# Altium footprint library IEEE-802.14.4.PcbLib: 21 footprints (part 2 of 2)
Each footprint in its own frame and in the unit in brackets; x right, y up, seen from the top. Pads: shape width x height; smd on the part's side, far side on the other; paste and mask are expansions set on the pad; w line width, h text height; cw(c..) or ccw(c..) is an arc to the next point about the centre after c.
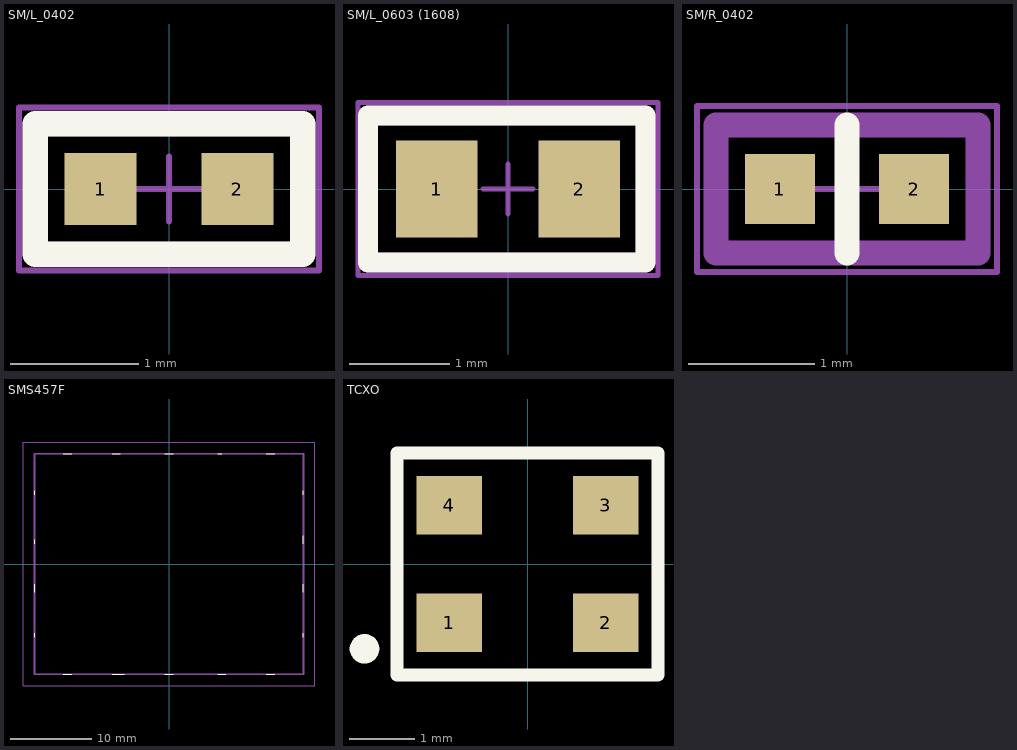
[diagram p1: the footprints below, top view; thin cyan lines are the x and y axes]

## SM/L_0402 [mil]
pads (2):
  rect 22x22 smd: 1(-21,0) 2(21,0)
Top Overlay:
  lines w7.87: -41,-20 41,-20 41,20 -41,20 -41,-20
Mechanical 11:
  text ".designator" at -43.31,-19.68 h19.68
Mechanical 13:
  lines w7.87: -41,-20 -41,20 41,20 41,-20 -41,-20
Mechanical 15:
  lines w1.97: 0,0 0,9.84 0,0 ; 0,0 -9.84,0 0,0 ; 0,0 9.84,0 0,0 ; 0,0 0,-9.84 0,0 ; -46,-25 -46,25 46,25 46,-25 -46,-25
3D body "User Library-cap_0402.STEP": height 19.68, standoff 0, extent -19.68,-9.84 19.69,9.85

## SM/L_0603 (1608) [mil]
pads (2):
  rect 32x38 smd: 1(-28,0) 2(28,0)
Top Overlay:
  lines w7.87: -55,-29 -55,29 54,29 54,-29 -55,-29
Mechanical 11:
  text ".designator" at 0,39.37 h19.68
  text ".Comment" at 0,-39.37 h19.68
Mechanical 13:
  lines w7.87: -55,-29 54,-29 54,29 -55,29 -55,-29
Mechanical 15:
  lines w1.97: 0,0 0,9.84 0,0 ; 0,0 -9.84,0 0,0 ; 0,0 9.84,0 0,0 ; 0,0 0,-9.84 0,0 ; -59,-34 -59,34 59,34 59,-34 -59,-34
3D body "User Library-Ferrite 0603.STEP": height 35.43, standoff 0, extent -31.49,-15.74 31.5,15.75

## SM/R_0402 [mil]
height 129.92
pads (2):
  rect 22x22 smd: 1(-21,0) 2(21,0)
Top Overlay:
  lines w7.87: 0,-20 0,20
Mechanical 11:
  text ".designator" at -195.87,-12.8 h39.37
Mechanical 13:
  lines w7.87: -41,-20 41,-20 41,20 -41,20 -41,-20
Mechanical 15:
  lines w1.97: 0,0 0,9.84 0,0 ; 0,0 -9.84,0 0,0 ; 0,0 9.84,0 0,0 ; 0,0 0,-9.84 0,0 ; -47,-26 -47,26 47,26 47,-26 -47,-26
3D body "User Library-res0402_.STEP": height 15.09, standoff 0.79, extent -19.36,-9.87 19.64,10.13

## SMS457F [mm]
pads (44):
  rect 1.02x3.4 on Top Paste: ""(-16.455,-11.275)
  rect 1.1x3.4 on Top Solder: ""(-16.455,-11.275)
  rect 1.02x4.04 on Top Paste: ""(-16.455,-5.805) ""(-16.455,-0.015) ""(-16.455,5.775) ""(16.455,-5.805) ""(16.455,-0.015) ""(16.455,5.775)
  rect 1.1x4.04 on Top Solder: ""(-16.455,-5.805) ""(-16.455,-0.015) ""(-16.455,5.775) ""(16.455,-5.805) ""(16.455,-0.015) ""(16.455,5.775)
  rect 1.02x3.43 on Top Paste: ""(-16.455,11.26) ""(16.455,-11.275) ""(16.455,11.26)
  rect 1.1x3.43 on Top Solder: ""(-16.455,11.26) ""(16.455,-11.275) ""(16.455,11.26)
  rect 3.23x1.02 on Top Paste: ""(-15.35,-13.485) ""(-15.35,13.485)
  rect 3.23x1.1 on Top Solder: ""(-15.35,-13.485) ""(-15.35,13.485)
  rect 4.04x1.02 on Top Paste: ""(-9.455,-13.485) ""(-9.455,13.485) ""(-3.155,-13.485) ""(-3.155,13.485) ""(3.135,-13.485) ""(3.135,13.485) ""(9.435,-13.485) ""(9.435,13.485)
  rect 4.04x1.1 on Top Solder: ""(-9.455,-13.485) ""(-9.455,13.485) ""(-3.155,-13.485) ""(-3.155,13.485) ""(3.135,-13.485) ""(3.135,13.485) ""(9.435,-13.485) ""(9.435,13.485)
  rect 3.25x1.02 on Top Paste: ""(15.34,-13.485) ""(15.34,13.485)
  rect 3.25x1.1 on Top Solder: ""(15.34,-13.485) ""(15.34,13.485)
Top Overlay:
  lines w0.1: -16.56,-9 -16.56,-8.5 ; -16.56,-3.5 -16.56,-2.5 ; -16.56,2.5 -16.56,3 ; -16.56,8.5 -16.56,9 ; -13,-13.59 -12,-13.59 ; -13,13.59 -12,13.59 ; -7,-13.59 -5.5,-13.59 ; -7,13.59 -6,13.59 ; -0.5,-13.59 0.5,-13.59 ; -0.5,13.59 0.5,13.59 ; 6,-13.59 6.5,-13.59 7,-13.59 ; 6,13.59 6.5,13.59 ; 12,-13.59 13,-13.59 ; 12,13.59 13,13.59 ; 16.56,-9 16.56,-8.5 ; 16.56,-3.5 16.56,-2.5 ; 16.56,2.5 16.56,3 16.56,3.5 ; 16.56,8.5 16.56,9
Mechanical 13:
  lines w0.2: -16.56,-13.59 16.56,-13.59 16.56,13.59 -16.56,13.59 -16.56,-13.59
Mechanical 15:
  lines w0.1: -17.965,-14.995 17.965,-14.995 17.965,14.995 -17.965,14.995 -17.965,-14.995

## TCXO [mm]
pads (4):
  rect 1x0.9 smd: 1(-1.2,-0.9) 2(1.2,-0.9) 3(1.2,0.9) 4(-1.2,0.9)
Top Overlay:
  circle w0.254: c-2.5,-1.3 r0.1
  lines w0.2: -2,-1.7 -2,1.7 2,1.7 2,-1.7 -2,-1.7
3D body "TCXO.STEP": height 1.1, standoff 0, extent -1.65,-1.3 1.65,1.3